# Altium schematic symbol library potDir_2eixos_v1_sch.SchLib: 1 symbol
Pins are listed as number, name and electrical type; pins without a type are passive.

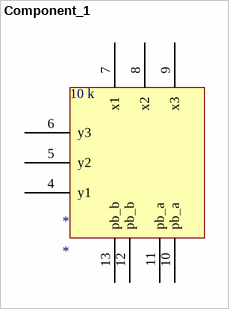
[diagram p0: symbol Component_1]

## Component_1
designator *
footprint Model Name (Footprint not found)
pins: 4 y1, 5 y2, 6 y3, 7 x1, 8 x2, 9 x3, 10 pb_a, 11 pb_a, 12 pb_b, 13 pb_b
text: 10 k